# EAGLE library part NRF-905-CXXX (library nrf905-Cxxx)
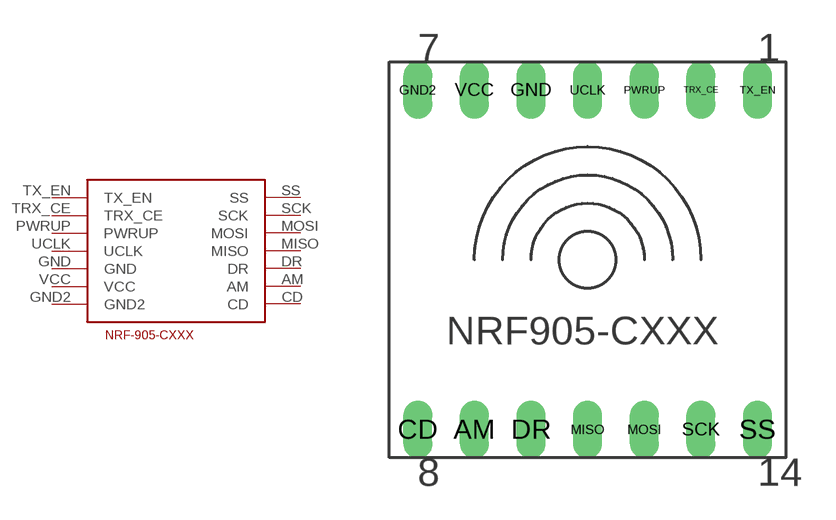
[diagram p0: symbol with the pads of NRF905-CXXX; footprint NRF905-CXXX]

Designator prefix -

## NRF-905-CXXX  [NRF905-CXXX]
AM  AM
CD  CD
DR  DR
GND  GND
GND2  GND2
MISO  MISO
MOSI  MOSI
PWRUP  PWRUP
SCK  SCK
SS  SS
TRX_CE  TRX_CE
TX_EN  TX_EN
UCLK  UCLK
VCC  VCC

## Footprint NRF905-CXXX (pad centres in mm)
drill 0.8 long: AM -5.08,-7.62; CD -7.62,-7.62; DR -2.54,-7.62; GND -2.54,7.62; GND2 -7.62,7.62; MISO 0,-7.62; MOSI 2.54,-7.62; PWRUP 2.54,7.62; SCK 5.08,-7.62; SS 7.62,-7.62; TRX_CE 5.08,7.62; TX_EN 7.62,7.62; UCLK 0,7.62; VCC -5.08,7.62